# Altium schematic symbol library IC Chips.SchLib: 1 symbol
Pins are listed as number, name and electrical type; pins without a type are passive.

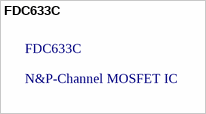
[diagram p0: symbol FDC633C]

## FDC633C
designator FDC633C, comment N&P-Channel MOSFET IC
Schematic: http://www.mouser.com/ds/2/149/FDC6333C-1007236.pdf; Package: SSOT-8
footprint SSOT-6
1 alternate drawing of the same symbol